# Altium schematic symbol library BLDC_MOTOR.SchLib: 1 symbol
Pins are listed as number, name and electrical type; pins without a type are passive.

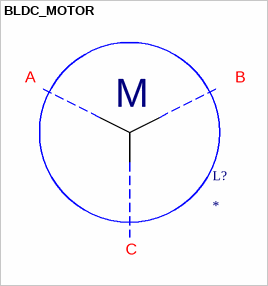
[diagram p0: symbol BLDC_MOTOR]

## BLDC_MOTOR
designator L?
Inductor-7mmX7mm_Free_Size / JLCPCB - MDA7030-220M / C2847487; MF: Eaton; MP: DR74-2R2-R; SnapEDA_Link: https://www.snapeda.com/parts/DR74-2R2-R/Eaton/view-part/?ref=snap; Package: Nonstandard Eaton; Value: *; Check_prices: https://www.snapeda.com/parts/DR74-2R2-R/Eaton/view-part/?ref=eda
footprint INDM7676X435N
text: A; B; M; C